# Altium footprint library Fiducial_01.PcbLib: 1 footprints
Each footprint in its own frame and in the unit in brackets; x right, y up, seen from the top. Pads: shape width x height; smd on the part's side, far side on the other; paste and mask are expansions set on the pad; w line width, h text height; cw(c..) or ccw(c..) is an arc to the next point about the centre after c.
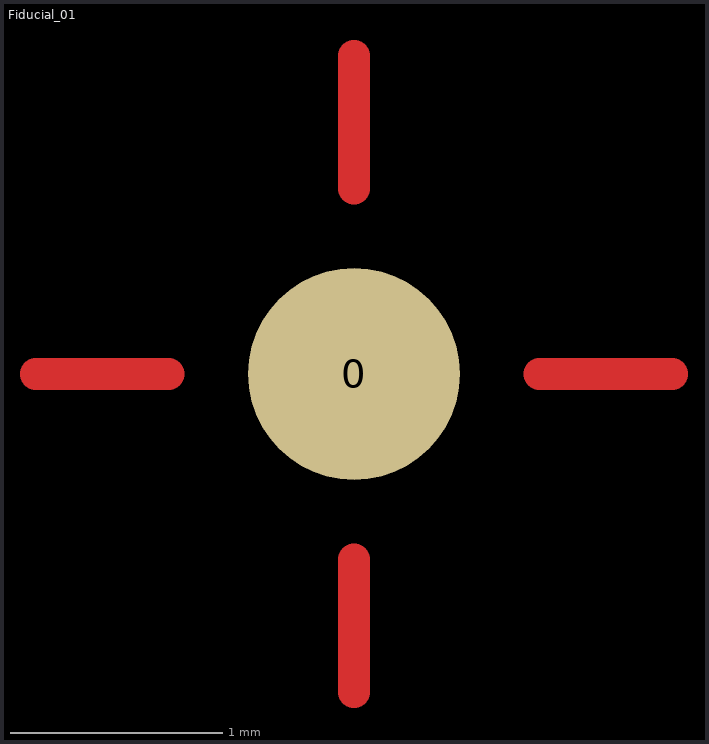
[diagram p0: the footprint, top view; thin cyan lines are the x and y axes]

## Fiducial_01 [mm]
pads (1):
  round 1 smd paste-2 mask+0.1: 0(587.248,79.502)
Top Layer:
  lines w0.15: 585.748,79.502 586.373,79.502 ; 587.248,78.002 587.248,78.627 ; 587.248,80.377 587.248,81.002 ; 588.123,79.502 588.748,79.502
Top Solder:
  lines w0.2: 585.748,79.502 586.373,79.502 ; 587.248,78.002 587.248,78.627 ; 587.248,80.377 587.248,81.002 ; 588.123,79.502 588.748,79.502